# Altium schematic symbol library Anntenas.SchLib: 1 symbol
Pins are listed as number, name and electrical type; pins without a type are passive.

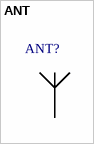
[diagram p0: symbol ANT]

## ANT
designator ANT?  (value not drawn)
footprint Meander_868_MHz
pins: 1